# EAGLE library part USB-MINI (library Connectors > USB)
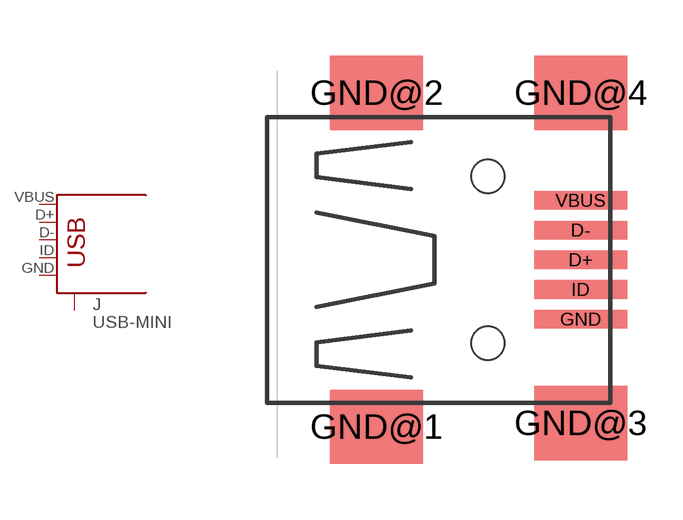
[diagram p1: symbol with the pads of USB-MINI-SMD; footprint USB-MINI-SMD]

Designator prefix J

## USB-MINI  [USB-MINI-SMD]
D+  D+
D-  D-
GND  GND
GND@1  CASE
GND@2  CASE
GND@3  CASE
GND@4  CASE
ID  ID
VBUS  VBUS

## Footprint USB-MINI-SMD (pad centres in mm)
smd 2.5 x 0.5: D+ 2.75,0; D- 2.75,0.8; GND 2.75,-1.6; ID 2.75,-0.8; VBUS 2.75,1.6
smd 2.5 x 2: GND@1 -2.75,-4.5; GND@2 -2.75,4.5; GND@3 2.75,-4.4; GND@4 2.75,4.5
hole 0.9 at 0.25,2.25
hole 0.9 at 0.25,-2.25